# Altium integrated library Linear Technology PMIC-Switching Reg LTC1174-LTC3901.IntLib: 2647 symbols (part 22 of 310)
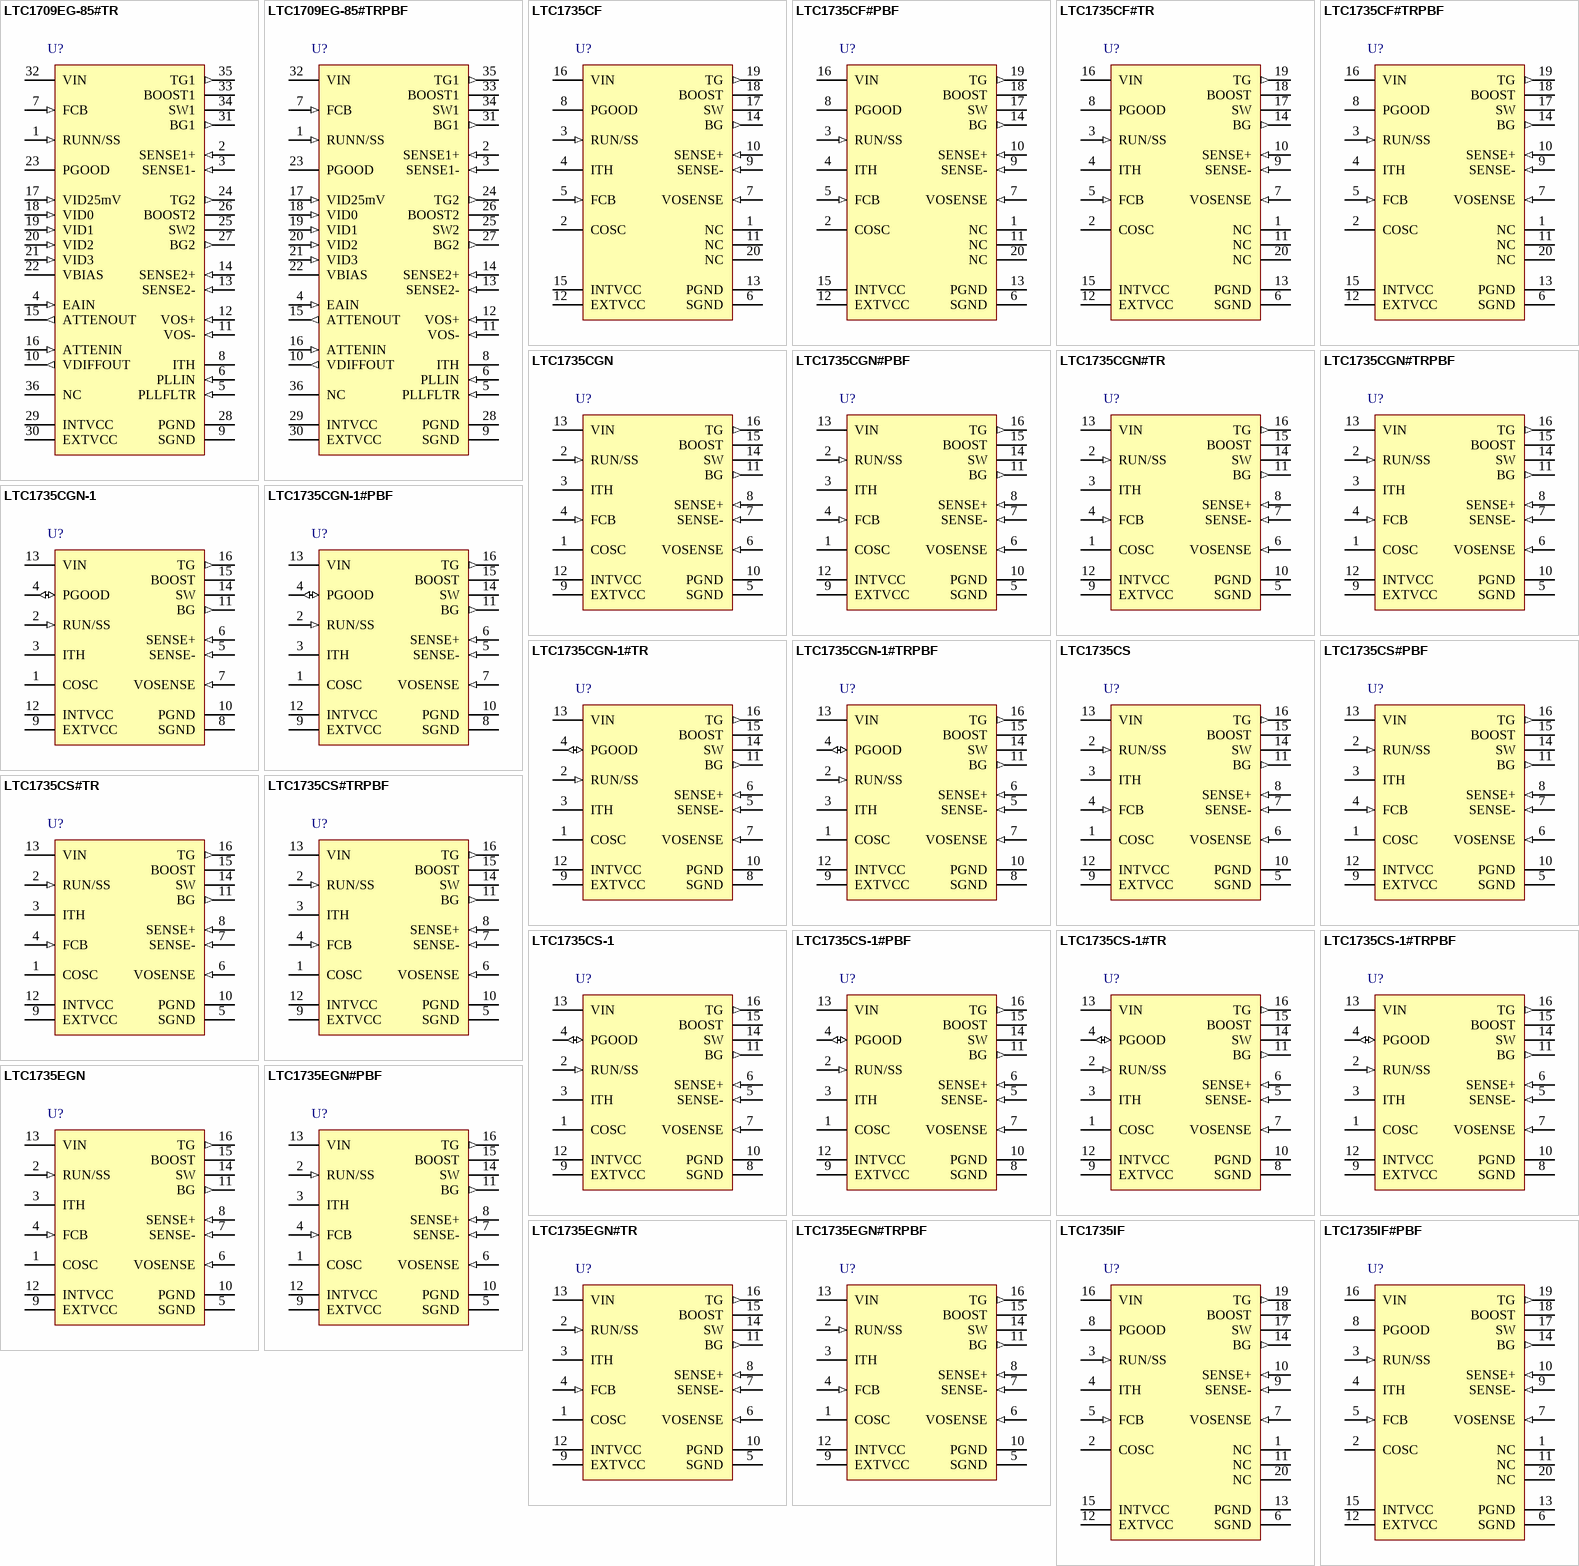
[diagram p128: symbols LTC1709EG-85#TR to LTC1735IF#PBF]

## LTC1735CGN#TR
designator U?
High Efficiency Synchronous Step-Down Switching Regulator, 16-pin SOP (GN-16), 0 to 85 degC, Tape and Reel; Manufacturer: Linear Technology; PartNumber: LTC1735CGN#TR; Number of Outputs: 1; PackageReference: GN-16; PackageDescription: 16-Pin Plastic SSOP, Body 4.9 x 3.9 mm, Pitch 0.635 mm; Supplier 1: Digi-Key; Supplier Part Number 1: LTC1735CGN#TR-ND; RoHS: FALSE
footprint LT-GN-16_N (SOP, 16-Leads, Body 5x4mm, Pitch 0.635mm, IPC Medium Density)
footprint LT-GN-16_L (SOP, 16-Leads, Body 5x4mm, Pitch 0.635mm, IPC High Density)
footprint LT-GN-16_M (SOP, 16-Leads, Body 5x4mm, Pitch 0.635mm, IPC Low Density)
pins: 1 COSC "External capacitor COSC from this pin to ground sets the operating frequency.", 2 RUN/SS (in) "Combination of Soft-Start and Run Control Inputs. A capacitor to ground at this pin sets the ramp time to full output current. The time is approximately 1.25s/uF. Forcing this pin below 1.5V causes the device to shut down. (See Datasheet)", 3 ITH "Error Amplifier Compensation Point. The current comparator threshold increases with this control voltage. Nominal voltage range for this pin is 0V to 2.4V.", 4 FCB (in) "Forced Continuous/Synchronization Input. Tie this pin to ground for continuous synchronous operation, to a resistive divider from the secondary output when using a secondary winding or to INTVCC to enable Burst Mode (See Datasheet)", 5 SGND (power) "Small-Signal Ground. All small-signal components such as COSC, CSS, the feedback divider plus the loop compensation resistor and capacitor(s) should single-point tie to this pin. This pin should, in turn, connect to PGND.", 6 VOSENSE (in) "Receives the feedback voltage from an external resistive divider across the outpu", 7 SENSE- (in) "The (-) Input to the Current Comparator.", 8 SENSE+ (in) "The (+) Input to the Current Comparator. Built-in offsets between SENSE- and SENSE+ pins in conjunction with RSENSE set the current trip threshold.", 9 EXTVCC (power) "Input to the Internal Switch Connected to INTVCC. This switch closes and supplies VCC power whenever EXTVCC is higher than 4.7V. See EXTVCC connection in the Applications Information section. Do not exceed 7V on this pin and (See Datasheet)", 10 PGND (power) "Driver Power Ground. Connects to the source of bottom N-channel MOSFET, the anode of the Schottky diode, and the (-) terminal of CIN.", 11 BG (out) "High Current Gate Drive for Bottom N-Channel MOSFET. Voltage swing at this pin is from ground to INTVCC.", 12 INTVCC (power) "Output of the Internal 5.2V Regulator and EXTVCC Switch. The driver and control circuits are powered from this voltage. Decouple to power ground with a 1uF ceramic capacitor placed directly adjacent to the IC together with a (See Datasheet)", 13 VIN (power) "Main Supply Pin. Must be closely decoupled to power ground.", 14 SW "Switch Node Connection to Inductor and Bootstrap Capacitor. Voltage swing at this pin is from a Schottky diode (external) voltage drop below ground to VIN.", 15 BOOST "Supply to Topside Floating Driver. The bootstrap capacitor is returned to this pin. Voltage swing at this pin is from a diode drop below INTVCC to (VIN + INTVCC).", 16 TG (out) "High Current Gate Drive for Top N-Channel MOSFET. This is the output of a floating driver with a voltage swing equal to INTVCC superimposed on the switch node voltage"

## LTC1735CGN#TRPBF
designator U?
High Efficiency Synchronous Step-Down Switching Regulator, 16-pin SOP (GN-16), 0 to 85 degC, Pb-Free, Tape and Reel; Manufacturer: Linear Technology; PartNumber: LTC1735CGN#TRPBF; Number of Outputs: 1; PackageReference: GN-16; PackageDescription: 16-Pin Plastic SSOP, Body 4.9 x 3.9 mm, Pitch 0.635 mm; Supplier 1: Digi-Key; Supplier Part Number 1: LTC1735CGN#TRPBF-ND; RoHS: TRUE
footprint LT-GN-16_N (SOP, 16-Leads, Body 5x4mm, Pitch 0.635mm, IPC Medium Density)
footprint LT-GN-16_L (SOP, 16-Leads, Body 5x4mm, Pitch 0.635mm, IPC High Density)
footprint LT-GN-16_M (SOP, 16-Leads, Body 5x4mm, Pitch 0.635mm, IPC Low Density)
pins: 1 COSC "External capacitor COSC from this pin to ground sets the operating frequency.", 2 RUN/SS (in) "Combination of Soft-Start and Run Control Inputs. A capacitor to ground at this pin sets the ramp time to full output current. The time is approximately 1.25s/uF. Forcing this pin below 1.5V causes the device to shut down. (See Datasheet)", 3 ITH "Error Amplifier Compensation Point. The current comparator threshold increases with this control voltage. Nominal voltage range for this pin is 0V to 2.4V.", 4 FCB (in) "Forced Continuous/Synchronization Input. Tie this pin to ground for continuous synchronous operation, to a resistive divider from the secondary output when using a secondary winding or to INTVCC to enable Burst Mode (See Datasheet)", 5 SGND (power) "Small-Signal Ground. All small-signal components such as COSC, CSS, the feedback divider plus the loop compensation resistor and capacitor(s) should single-point tie to this pin. This pin should, in turn, connect to PGND.", 6 VOSENSE (in) "Receives the feedback voltage from an external resistive divider across the outpu", 7 SENSE- (in) "The (-) Input to the Current Comparator.", 8 SENSE+ (in) "The (+) Input to the Current Comparator. Built-in offsets between SENSE- and SENSE+ pins in conjunction with RSENSE set the current trip threshold.", 9 EXTVCC (power) "Input to the Internal Switch Connected to INTVCC. This switch closes and supplies VCC power whenever EXTVCC is higher than 4.7V. See EXTVCC connection in the Applications Information section. Do not exceed 7V on this pin and (See Datasheet)", 10 PGND (power) "Driver Power Ground. Connects to the source of bottom N-channel MOSFET, the anode of the Schottky diode, and the (-) terminal of CIN.", 11 BG (out) "High Current Gate Drive for Bottom N-Channel MOSFET. Voltage swing at this pin is from ground to INTVCC.", 12 INTVCC (power) "Output of the Internal 5.2V Regulator and EXTVCC Switch. The driver and control circuits are powered from this voltage. Decouple to power ground with a 1uF ceramic capacitor placed directly adjacent to the IC together with a (See Datasheet)", 13 VIN (power) "Main Supply Pin. Must be closely decoupled to power ground.", 14 SW "Switch Node Connection to Inductor and Bootstrap Capacitor. Voltage swing at this pin is from a Schottky diode (external) voltage drop below ground to VIN.", 15 BOOST "Supply to Topside Floating Driver. The bootstrap capacitor is returned to this pin. Voltage swing at this pin is from a diode drop below INTVCC to (VIN + INTVCC).", 16 TG (out) "High Current Gate Drive for Top N-Channel MOSFET. This is the output of a floating driver with a voltage swing equal to INTVCC superimposed on the switch node voltage"

## LTC1735CGN-1
designator U?
High Efficiency Synchronous Step-Down Switching Regulator, 16-pin SOP (GN-16), 0 to 85 degC; Manufacturer: Linear Technology; PartNumber: LTC1735CGN-1; Number of Outputs: 1; PackageReference: GN-16; PackageDescription: 16-Pin Plastic SSOP, Body 4.9 x 3.9 mm, Pitch 0.635 mm; Supplier 1: Digi-Key; Supplier Part Number 1: LTC1735CGN-1-ND; RoHS: FALSE
footprint LT-GN-16_N (SOP, 16-Leads, Body 5x4mm, Pitch 0.635mm, IPC Medium Density)
footprint LT-GN-16_L (SOP, 16-Leads, Body 5x4mm, Pitch 0.635mm, IPC High Density)
footprint LT-GN-16_M (SOP, 16-Leads, Body 5x4mm, Pitch 0.635mm, IPC Low Density)
pins: 1 COSC "External capacitor COSC from this pin to ground sets the operating frequency.", 2 RUN/SS (in) "Combination of Soft-Start and Run Control Inputs. A capacitor to ground at this pin sets the ramp time to full current output. The time is approximately 1.25s/uF. Forcing this pin below 1.5V causes the device to be shut down.(See Datasheet)", 3 ITH "Error Amplifier Compensation Point. The current comparator threshold increases with this control voltage. Nominal voltage range for this pin is 0V to 2.4V.", 4 PGOOD (io) "Open-Drain Logic Output and Forced Continuous/Synchronization Input. The PGOOD pin is pulled to ground when the voltage on the VOSENSE pin is not within +/-7.5% of its nominal set point. If power good indication is not (See Datasheet)", 5 SENSE- (in) "The (-) Input to the Current Comparator.", 6 SENSE+ (in) "The (+) Input to the Current Comparator. Built-in offsets between SENSE + and SENSE- pins in conjunction with RSENSE set the inductor current trip threshold.", 7 VOSENSE (in) "Receives the feedback voltage from an external resistive divider across the output.", 8 SGND (power) "Small-Signal Ground. All small-signal components such as COSC, CSS, the feedback divider plus the loop compensation resistors and capacitor(s) should single-point tie to this pin. This pin should, in turn, connect to PGND.", 9 EXTVCC (power) "Input to the Internal Switch Connected to INTVCC. This switch closes and supplies VCC power whenever EXTVCC is higher than 4.7V. See EXTVCC connection in Applications Information section. Do not exceed 7V on this pin and (See Datasheet)", 10 PGND (power) "Driver Power Ground. This pin connects to the source of the bottom N-channel MOSFET, the anode of the Schottky diode and the (-) terminal of CIN.", 11 BG (out) "High Current Gate Drive for the Bottom N-Channel MOSFET. Voltage swing at this pin is from ground to INTVCC .", 12 INTVCC (power) "Output of the Internal 5.2V Low Dropout Regulator and EXTVCC Switch. The driver and control circuits are powered from this voltage. Decouple to power ground with a 1uF ceramic capacitor placed directly adjacent to the IC (See Datasheet)", 13 VIN (power) "Main Supply Pin. This pin must be closely decoupled to power ground.", 14 SW "Switch Node Connection to Inductor and Bootstrap Capacitor. Voltage swing at this pin is from a Schottky diode (external) voltage drop below ground to VIN.", 15 BOOST "Supply to Topside Floating Driver. The bootstrap capacitor is returned to this pin. Voltage swing at this pin is from a diode drop below INTVCC to VIN + INTVCC.", 16 TG (out) "High Current Gate Drive for Top N-Channel MOSFET. This is the output of a floating driver with a voltage swing equal to INTVCC superimposed on the switch node voltage SW."

## LTC1735CGN-1#PBF
designator U?
High Efficiency Synchronous Step-Down Switching Regulator, 16-pin SOP (GN-16), 0 to 85 degC, Pb-Free; Manufacturer: Linear Technology; PartNumber: LTC1735CGN-1#PBF; Number of Outputs: 1; PackageReference: GN-16; PackageDescription: 16-Pin Plastic SSOP, Body 4.9 x 3.9 mm, Pitch 0.635 mm; Supplier 1: Digi-Key; Supplier Part Number 1: LTC1735CGN-1#PBF-ND; RoHS: TRUE
footprint LT-GN-16_N (SOP, 16-Leads, Body 5x4mm, Pitch 0.635mm, IPC Medium Density)
footprint LT-GN-16_L (SOP, 16-Leads, Body 5x4mm, Pitch 0.635mm, IPC High Density)
footprint LT-GN-16_M (SOP, 16-Leads, Body 5x4mm, Pitch 0.635mm, IPC Low Density)
pins: 1 COSC "External capacitor COSC from this pin to ground sets the operating frequency.", 2 RUN/SS (in) "Combination of Soft-Start and Run Control Inputs. A capacitor to ground at this pin sets the ramp time to full current output. The time is approximately 1.25s/uF. Forcing this pin below 1.5V causes the device to be shut down.(See Datasheet)", 3 ITH "Error Amplifier Compensation Point. The current comparator threshold increases with this control voltage. Nominal voltage range for this pin is 0V to 2.4V.", 4 PGOOD (io) "Open-Drain Logic Output and Forced Continuous/Synchronization Input. The PGOOD pin is pulled to ground when the voltage on the VOSENSE pin is not within +/-7.5% of its nominal set point. If power good indication is not (See Datasheet)", 5 SENSE- (in) "The (-) Input to the Current Comparator.", 6 SENSE+ (in) "The (+) Input to the Current Comparator. Built-in offsets between SENSE + and SENSE- pins in conjunction with RSENSE set the inductor current trip threshold.", 7 VOSENSE (in) "Receives the feedback voltage from an external resistive divider across the output.", 8 SGND (power) "Small-Signal Ground. All small-signal components such as COSC, CSS, the feedback divider plus the loop compensation resistors and capacitor(s) should single-point tie to this pin. This pin should, in turn, connect to PGND.", 9 EXTVCC (power) "Input to the Internal Switch Connected to INTVCC. This switch closes and supplies VCC power whenever EXTVCC is higher than 4.7V. See EXTVCC connection in Applications Information section. Do not exceed 7V on this pin and (See Datasheet)", 10 PGND (power) "Driver Power Ground. This pin connects to the source of the bottom N-channel MOSFET, the anode of the Schottky diode and the (-) terminal of CIN.", 11 BG (out) "High Current Gate Drive for the Bottom N-Channel MOSFET. Voltage swing at this pin is from ground to INTVCC .", 12 INTVCC (power) "Output of the Internal 5.2V Low Dropout Regulator and EXTVCC Switch. The driver and control circuits are powered from this voltage. Decouple to power ground with a 1uF ceramic capacitor placed directly adjacent to the IC (See Datasheet)", 13 VIN (power) "Main Supply Pin. This pin must be closely decoupled to power ground.", 14 SW "Switch Node Connection to Inductor and Bootstrap Capacitor. Voltage swing at this pin is from a Schottky diode (external) voltage drop below ground to VIN.", 15 BOOST "Supply to Topside Floating Driver. The bootstrap capacitor is returned to this pin. Voltage swing at this pin is from a diode drop below INTVCC to VIN + INTVCC.", 16 TG (out) "High Current Gate Drive for Top N-Channel MOSFET. This is the output of a floating driver with a voltage swing equal to INTVCC superimposed on the switch node voltage SW."

## LTC1735CGN-1#TR
designator U?
High Efficiency Synchronous Step-Down Switching Regulator, 16-pin SOP (GN-16), 0 to 85 degC, Tape and Reel; Manufacturer: Linear Technology; PartNumber: LTC1735CGN-1#TR; Number of Outputs: 1; PackageReference: GN-16; PackageDescription: 16-Pin Plastic SSOP, Body 4.9 x 3.9 mm, Pitch 0.635 mm; Supplier 1: Digi-Key; Supplier Part Number 1: LTC1735CGN-1#TR-ND; RoHS: FALSE
footprint LT-GN-16_N (SOP, 16-Leads, Body 5x4mm, Pitch 0.635mm, IPC Medium Density)
footprint LT-GN-16_L (SOP, 16-Leads, Body 5x4mm, Pitch 0.635mm, IPC High Density)
footprint LT-GN-16_M (SOP, 16-Leads, Body 5x4mm, Pitch 0.635mm, IPC Low Density)
pins: 1 COSC "External capacitor COSC from this pin to ground sets the operating frequency.", 2 RUN/SS (in) "Combination of Soft-Start and Run Control Inputs. A capacitor to ground at this pin sets the ramp time to full current output. The time is approximately 1.25s/uF. Forcing this pin below 1.5V causes the device to be shut down.(See Datasheet)", 3 ITH "Error Amplifier Compensation Point. The current comparator threshold increases with this control voltage. Nominal voltage range for this pin is 0V to 2.4V.", 4 PGOOD (io) "Open-Drain Logic Output and Forced Continuous/Synchronization Input. The PGOOD pin is pulled to ground when the voltage on the VOSENSE pin is not within +/-7.5% of its nominal set point. If power good indication is not (See Datasheet)", 5 SENSE- (in) "The (-) Input to the Current Comparator.", 6 SENSE+ (in) "The (+) Input to the Current Comparator. Built-in offsets between SENSE + and SENSE- pins in conjunction with RSENSE set the inductor current trip threshold.", 7 VOSENSE (in) "Receives the feedback voltage from an external resistive divider across the output.", 8 SGND (power) "Small-Signal Ground. All small-signal components such as COSC, CSS, the feedback divider plus the loop compensation resistors and capacitor(s) should single-point tie to this pin. This pin should, in turn, connect to PGND.", 9 EXTVCC (power) "Input to the Internal Switch Connected to INTVCC. This switch closes and supplies VCC power whenever EXTVCC is higher than 4.7V. See EXTVCC connection in Applications Information section. Do not exceed 7V on this pin and (See Datasheet)", 10 PGND (power) "Driver Power Ground. This pin connects to the source of the bottom N-channel MOSFET, the anode of the Schottky diode and the (-) terminal of CIN.", 11 BG (out) "High Current Gate Drive for the Bottom N-Channel MOSFET. Voltage swing at this pin is from ground to INTVCC .", 12 INTVCC (power) "Output of the Internal 5.2V Low Dropout Regulator and EXTVCC Switch. The driver and control circuits are powered from this voltage. Decouple to power ground with a 1uF ceramic capacitor placed directly adjacent to the IC (See Datasheet)", 13 VIN (power) "Main Supply Pin. This pin must be closely decoupled to power ground.", 14 SW "Switch Node Connection to Inductor and Bootstrap Capacitor. Voltage swing at this pin is from a Schottky diode (external) voltage drop below ground to VIN.", 15 BOOST "Supply to Topside Floating Driver. The bootstrap capacitor is returned to this pin. Voltage swing at this pin is from a diode drop below INTVCC to VIN + INTVCC.", 16 TG (out) "High Current Gate Drive for Top N-Channel MOSFET. This is the output of a floating driver with a voltage swing equal to INTVCC superimposed on the switch node voltage SW."

## LTC1735CGN-1#TRPBF
designator U?
High Efficiency Synchronous Step-Down Switching Regulator, 16-pin SOP (GN-16), 0 to 85 degC, Pb-Free, Tape and Reel; Manufacturer: Linear Technology; PartNumber: LTC1735CGN-1#TRPBF; Number of Outputs: 1; PackageReference: GN-16; PackageDescription: 16-Pin Plastic SSOP, Body 4.9 x 3.9 mm, Pitch 0.635 mm; Supplier 1: Digi-Key; Supplier Part Number 1: LTC1735CGN-1#TRPBF-ND; RoHS: TRUE
footprint LT-GN-16_N (SOP, 16-Leads, Body 5x4mm, Pitch 0.635mm, IPC Medium Density)
footprint LT-GN-16_L (SOP, 16-Leads, Body 5x4mm, Pitch 0.635mm, IPC High Density)
footprint LT-GN-16_M (SOP, 16-Leads, Body 5x4mm, Pitch 0.635mm, IPC Low Density)
pins: 1 COSC "External capacitor COSC from this pin to ground sets the operating frequency.", 2 RUN/SS (in) "Combination of Soft-Start and Run Control Inputs. A capacitor to ground at this pin sets the ramp time to full current output. The time is approximately 1.25s/uF. Forcing this pin below 1.5V causes the device to be shut down.(See Datasheet)", 3 ITH "Error Amplifier Compensation Point. The current comparator threshold increases with this control voltage. Nominal voltage range for this pin is 0V to 2.4V.", 4 PGOOD (io) "Open-Drain Logic Output and Forced Continuous/Synchronization Input. The PGOOD pin is pulled to ground when the voltage on the VOSENSE pin is not within +/-7.5% of its nominal set point. If power good indication is not (See Datasheet)", 5 SENSE- (in) "The (-) Input to the Current Comparator.", 6 SENSE+ (in) "The (+) Input to the Current Comparator. Built-in offsets between SENSE + and SENSE- pins in conjunction with RSENSE set the inductor current trip threshold.", 7 VOSENSE (in) "Receives the feedback voltage from an external resistive divider across the output.", 8 SGND (power) "Small-Signal Ground. All small-signal components such as COSC, CSS, the feedback divider plus the loop compensation resistors and capacitor(s) should single-point tie to this pin. This pin should, in turn, connect to PGND.", 9 EXTVCC (power) "Input to the Internal Switch Connected to INTVCC. This switch closes and supplies VCC power whenever EXTVCC is higher than 4.7V. See EXTVCC connection in Applications Information section. Do not exceed 7V on this pin and (See Datasheet)", 10 PGND (power) "Driver Power Ground. This pin connects to the source of the bottom N-channel MOSFET, the anode of the Schottky diode and the (-) terminal of CIN.", 11 BG (out) "High Current Gate Drive for the Bottom N-Channel MOSFET. Voltage swing at this pin is from ground to INTVCC .", 12 INTVCC (power) "Output of the Internal 5.2V Low Dropout Regulator and EXTVCC Switch. The driver and control circuits are powered from this voltage. Decouple to power ground with a 1uF ceramic capacitor placed directly adjacent to the IC (See Datasheet)", 13 VIN (power) "Main Supply Pin. This pin must be closely decoupled to power ground.", 14 SW "Switch Node Connection to Inductor and Bootstrap Capacitor. Voltage swing at this pin is from a Schottky diode (external) voltage drop below ground to VIN.", 15 BOOST "Supply to Topside Floating Driver. The bootstrap capacitor is returned to this pin. Voltage swing at this pin is from a diode drop below INTVCC to VIN + INTVCC.", 16 TG (out) "High Current Gate Drive for Top N-Channel MOSFET. This is the output of a floating driver with a voltage swing equal to INTVCC superimposed on the switch node voltage SW."

## LTC1735CS
designator U?
High Efficiency Synchronous Step-Down Switching Regulator, 16-pin SOP (S-16), 0 to 85 degC; Manufacturer: Linear Technology; PartNumber: LTC1735CS; Number of Outputs: 1; PackageReference: S-16; PackageDescription: 16-Pin Plastic Small Outline, Body 9.9 x 3.9 mm, Pitch 1.27 mm; Supplier 1: Digi-Key; Supplier Part Number 1: LTC1735CS-ND; RoHS: FALSE
footprint LT-S-16_N (SOP, 16-Leads, Body 10x4mm, Pitch 1.27mm, IPC Medium Density)
footprint LT-S-16_L (SOP, 16-Leads, Body 10x4mm, Pitch 1.27mm, IPC High Density)
footprint LT-S-16_M (SOP, 16-Leads, Body 10x4mm, Pitch 1.27mm, IPC Low Density)
pins: 1 COSC "External capacitor COSC from this pin to ground sets the operating frequency.", 2 RUN/SS (in) "Combination of Soft-Start and Run Control Inputs. A capacitor to ground at this pin sets the ramp time to full output current. The time is approximately 1.25s/uF. Forcing this pin below 1.5V causes the device to shut down. (See Datasheet)", 3 ITH "Error Amplifier Compensation Point. The current comparator threshold increases with this control voltage. Nominal voltage range for this pin is 0V to 2.4V.", 4 FCB (in) "Forced Continuous/Synchronization Input. Tie this pin to ground for continuous synchronous operation, to a resistive divider from the secondary output when using a secondary winding or to INTVCC to enable Burst Mode (See Datasheet)", 5 SGND (power) "Small-Signal Ground. All small-signal components such as COSC, CSS, the feedback divider plus the loop compensation resistor and capacitor(s) should single-point tie to this pin. This pin should, in turn, connect to PGND.", 6 VOSENSE (in) "Receives the feedback voltage from an external resistive divider across the outpu", 7 SENSE- (in) "The (-) Input to the Current Comparator.", 8 SENSE+ (in) "The (+) Input to the Current Comparator. Built-in offsets between SENSE- and SENSE+ pins in conjunction with RSENSE set the current trip threshold.", 9 EXTVCC (power) "Input to the Internal Switch Connected to INTVCC. This switch closes and supplies VCC power whenever EXTVCC is higher than 4.7V. See EXTVCC connection in the Applications Information section. Do not exceed 7V on this pin and (See Datasheet)", 10 PGND (power) "Driver Power Ground. Connects to the source of bottom N-channel MOSFET, the anode of the Schottky diode, and the (-) terminal of CIN.", 11 BG (out) "High Current Gate Drive for Bottom N-Channel MOSFET. Voltage swing at this pin is from ground to INTVCC.", 12 INTVCC (power) "Output of the Internal 5.2V Regulator and EXTVCC Switch. The driver and control circuits are powered from this voltage. Decouple to power ground with a 1uF ceramic capacitor placed directly adjacent to the IC together with a (See Datasheet)", 13 VIN (power) "Main Supply Pin. Must be closely decoupled to power ground.", 14 SW "Switch Node Connection to Inductor and Bootstrap Capacitor. Voltage swing at this pin is from a Schottky diode (external) voltage drop below ground to VIN.", 15 BOOST "Supply to Topside Floating Driver. The bootstrap capacitor is returned to this pin. Voltage swing at this pin is from a diode drop below INTVCC to (VIN + INTVCC).", 16 TG (out) "High Current Gate Drive for Top N-Channel MOSFET. This is the output of a floating driver with a voltage swing equal to INTVCC superimposed on the switch node voltage"

## LTC1735CS#PBF
designator U?
High Efficiency Synchronous Step-Down Switching Regulator, 16-pin SOP (S-16), 0 to 85 degC, Pb-Free; Manufacturer: Linear Technology; PartNumber: LTC1735CS#PBF; Number of Outputs: 1; PackageReference: S-16; PackageDescription: 16-Pin Plastic Small Outline, Body 9.9 x 3.9 mm, Pitch 1.27 mm; Supplier 1: Digi-Key; Supplier Part Number 1: LTC1735CS#PBF-ND; RoHS: TRUE
footprint LT-S-16_N (SOP, 16-Leads, Body 10x4mm, Pitch 1.27mm, IPC Medium Density)
footprint LT-S-16_L (SOP, 16-Leads, Body 10x4mm, Pitch 1.27mm, IPC High Density)
footprint LT-S-16_M (SOP, 16-Leads, Body 10x4mm, Pitch 1.27mm, IPC Low Density)
pins: 1 COSC "External capacitor COSC from this pin to ground sets the operating frequency.", 2 RUN/SS (in) "Combination of Soft-Start and Run Control Inputs. A capacitor to ground at this pin sets the ramp time to full output current. The time is approximately 1.25s/uF. Forcing this pin below 1.5V causes the device to shut down. (See Datasheet)", 3 ITH "Error Amplifier Compensation Point. The current comparator threshold increases with this control voltage. Nominal voltage range for this pin is 0V to 2.4V.", 4 FCB (in) "Forced Continuous/Synchronization Input. Tie this pin to ground for continuous synchronous operation, to a resistive divider from the secondary output when using a secondary winding or to INTVCC to enable Burst Mode (See Datasheet)", 5 SGND (power) "Small-Signal Ground. All small-signal components such as COSC, CSS, the feedback divider plus the loop compensation resistor and capacitor(s) should single-point tie to this pin. This pin should, in turn, connect to PGND.", 6 VOSENSE (in) "Receives the feedback voltage from an external resistive divider across the outpu", 7 SENSE- (in) "The (-) Input to the Current Comparator.", 8 SENSE+ (in) "The (+) Input to the Current Comparator. Built-in offsets between SENSE- and SENSE+ pins in conjunction with RSENSE set the current trip threshold.", 9 EXTVCC (power) "Input to the Internal Switch Connected to INTVCC. This switch closes and supplies VCC power whenever EXTVCC is higher than 4.7V. See EXTVCC connection in the Applications Information section. Do not exceed 7V on this pin and (See Datasheet)", 10 PGND (power) "Driver Power Ground. Connects to the source of bottom N-channel MOSFET, the anode of the Schottky diode, and the (-) terminal of CIN.", 11 BG (out) "High Current Gate Drive for Bottom N-Channel MOSFET. Voltage swing at this pin is from ground to INTVCC.", 12 INTVCC (power) "Output of the Internal 5.2V Regulator and EXTVCC Switch. The driver and control circuits are powered from this voltage. Decouple to power ground with a 1uF ceramic capacitor placed directly adjacent to the IC together with a (See Datasheet)", 13 VIN (power) "Main Supply Pin. Must be closely decoupled to power ground.", 14 SW "Switch Node Connection to Inductor and Bootstrap Capacitor. Voltage swing at this pin is from a Schottky diode (external) voltage drop below ground to VIN.", 15 BOOST "Supply to Topside Floating Driver. The bootstrap capacitor is returned to this pin. Voltage swing at this pin is from a diode drop below INTVCC to (VIN + INTVCC).", 16 TG (out) "High Current Gate Drive for Top N-Channel MOSFET. This is the output of a floating driver with a voltage swing equal to INTVCC superimposed on the switch node voltage"

## LTC1735CS#TR
designator U?
High Efficiency Synchronous Step-Down Switching Regulator, 16-pin SOP (S-16), 0 to 85 degC, Tape and Reel; Manufacturer: Linear Technology; PartNumber: LTC1735CS#TR; Number of Outputs: 1; PackageReference: S-16; PackageDescription: 16-Pin Plastic Small Outline, Body 9.9 x 3.9 mm, Pitch 1.27 mm; Supplier 1: Digi-Key; Supplier Part Number 1: LTC1735CS#TR-ND; RoHS: FALSE
footprint LT-S-16_N (SOP, 16-Leads, Body 10x4mm, Pitch 1.27mm, IPC Medium Density)
footprint LT-S-16_L (SOP, 16-Leads, Body 10x4mm, Pitch 1.27mm, IPC High Density)
footprint LT-S-16_M (SOP, 16-Leads, Body 10x4mm, Pitch 1.27mm, IPC Low Density)
pins: 1 COSC "External capacitor COSC from this pin to ground sets the operating frequency.", 2 RUN/SS (in) "Combination of Soft-Start and Run Control Inputs. A capacitor to ground at this pin sets the ramp time to full output current. The time is approximately 1.25s/uF. Forcing this pin below 1.5V causes the device to shut down. (See Datasheet)", 3 ITH "Error Amplifier Compensation Point. The current comparator threshold increases with this control voltage. Nominal voltage range for this pin is 0V to 2.4V.", 4 FCB (in) "Forced Continuous/Synchronization Input. Tie this pin to ground for continuous synchronous operation, to a resistive divider from the secondary output when using a secondary winding or to INTVCC to enable Burst Mode (See Datasheet)", 5 SGND (power) "Small-Signal Ground. All small-signal components such as COSC, CSS, the feedback divider plus the loop compensation resistor and capacitor(s) should single-point tie to this pin. This pin should, in turn, connect to PGND.", 6 VOSENSE (in) "Receives the feedback voltage from an external resistive divider across the outpu", 7 SENSE- (in) "The (-) Input to the Current Comparator.", 8 SENSE+ (in) "The (+) Input to the Current Comparator. Built-in offsets between SENSE- and SENSE+ pins in conjunction with RSENSE set the current trip threshold.", 9 EXTVCC (power) "Input to the Internal Switch Connected to INTVCC. This switch closes and supplies VCC power whenever EXTVCC is higher than 4.7V. See EXTVCC connection in the Applications Information section. Do not exceed 7V on this pin and (See Datasheet)", 10 PGND (power) "Driver Power Ground. Connects to the source of bottom N-channel MOSFET, the anode of the Schottky diode, and the (-) terminal of CIN.", 11 BG (out) "High Current Gate Drive for Bottom N-Channel MOSFET. Voltage swing at this pin is from ground to INTVCC.", 12 INTVCC (power) "Output of the Internal 5.2V Regulator and EXTVCC Switch. The driver and control circuits are powered from this voltage. Decouple to power ground with a 1uF ceramic capacitor placed directly adjacent to the IC together with a (See Datasheet)", 13 VIN (power) "Main Supply Pin. Must be closely decoupled to power ground.", 14 SW "Switch Node Connection to Inductor and Bootstrap Capacitor. Voltage swing at this pin is from a Schottky diode (external) voltage drop below ground to VIN.", 15 BOOST "Supply to Topside Floating Driver. The bootstrap capacitor is returned to this pin. Voltage swing at this pin is from a diode drop below INTVCC to (VIN + INTVCC).", 16 TG (out) "High Current Gate Drive for Top N-Channel MOSFET. This is the output of a floating driver with a voltage swing equal to INTVCC superimposed on the switch node voltage"

## LTC1735CS#TRPBF
designator U?
High Efficiency Synchronous Step-Down Switching Regulator, 16-pin SOP (S-16), 0 to 85 degC, Pb-Free, Tape and Reel; Manufacturer: Linear Technology; PartNumber: LTC1735CS#TRPBF; Number of Outputs: 1; PackageReference: S-16; PackageDescription: 16-Pin Plastic Small Outline, Body 9.9 x 3.9 mm, Pitch 1.27 mm; Supplier 1: Digi-Key; Supplier Part Number 1: LTC1735CS#TRPBF-ND; RoHS: TRUE
footprint LT-S-16_N (SOP, 16-Leads, Body 10x4mm, Pitch 1.27mm, IPC Medium Density)
footprint LT-S-16_L (SOP, 16-Leads, Body 10x4mm, Pitch 1.27mm, IPC High Density)
footprint LT-S-16_M (SOP, 16-Leads, Body 10x4mm, Pitch 1.27mm, IPC Low Density)
pins: 1 COSC "External capacitor COSC from this pin to ground sets the operating frequency.", 2 RUN/SS (in) "Combination of Soft-Start and Run Control Inputs. A capacitor to ground at this pin sets the ramp time to full output current. The time is approximately 1.25s/uF. Forcing this pin below 1.5V causes the device to shut down. (See Datasheet)", 3 ITH "Error Amplifier Compensation Point. The current comparator threshold increases with this control voltage. Nominal voltage range for this pin is 0V to 2.4V.", 4 FCB (in) "Forced Continuous/Synchronization Input. Tie this pin to ground for continuous synchronous operation, to a resistive divider from the secondary output when using a secondary winding or to INTVCC to enable Burst Mode (See Datasheet)", 5 SGND (power) "Small-Signal Ground. All small-signal components such as COSC, CSS, the feedback divider plus the loop compensation resistor and capacitor(s) should single-point tie to this pin. This pin should, in turn, connect to PGND.", 6 VOSENSE (in) "Receives the feedback voltage from an external resistive divider across the outpu", 7 SENSE- (in) "The (-) Input to the Current Comparator.", 8 SENSE+ (in) "The (+) Input to the Current Comparator. Built-in offsets between SENSE- and SENSE+ pins in conjunction with RSENSE set the current trip threshold.", 9 EXTVCC (power) "Input to the Internal Switch Connected to INTVCC. This switch closes and supplies VCC power whenever EXTVCC is higher than 4.7V. See EXTVCC connection in the Applications Information section. Do not exceed 7V on this pin and (See Datasheet)", 10 PGND (power) "Driver Power Ground. Connects to the source of bottom N-channel MOSFET, the anode of the Schottky diode, and the (-) terminal of CIN.", 11 BG (out) "High Current Gate Drive for Bottom N-Channel MOSFET. Voltage swing at this pin is from ground to INTVCC.", 12 INTVCC (power) "Output of the Internal 5.2V Regulator and EXTVCC Switch. The driver and control circuits are powered from this voltage. Decouple to power ground with a 1uF ceramic capacitor placed directly adjacent to the IC together with a (See Datasheet)", 13 VIN (power) "Main Supply Pin. Must be closely decoupled to power ground.", 14 SW "Switch Node Connection to Inductor and Bootstrap Capacitor. Voltage swing at this pin is from a Schottky diode (external) voltage drop below ground to VIN.", 15 BOOST "Supply to Topside Floating Driver. The bootstrap capacitor is returned to this pin. Voltage swing at this pin is from a diode drop below INTVCC to (VIN + INTVCC).", 16 TG (out) "High Current Gate Drive for Top N-Channel MOSFET. This is the output of a floating driver with a voltage swing equal to INTVCC superimposed on the switch node voltage"

## LTC1735CS-1
designator U?
High Efficiency Synchronous Step-Down Switching Regulator, 16-pin SOP (S-16), 0 to 85 degC; Manufacturer: Linear Technology; PartNumber: LTC1735CS-1; Number of Outputs: 1; PackageReference: S-16; PackageDescription: 16-Pin Plastic Small Outline, Body 9.9 x 3.9 mm, Pitch 1.27 mm; Supplier 1: Digi-Key; Supplier Part Number 1: LTC1735CS-1-ND; RoHS: FALSE
footprint LT-S-16_N (SOP, 16-Leads, Body 10x4mm, Pitch 1.27mm, IPC Medium Density)
footprint LT-S-16_L (SOP, 16-Leads, Body 10x4mm, Pitch 1.27mm, IPC High Density)
footprint LT-S-16_M (SOP, 16-Leads, Body 10x4mm, Pitch 1.27mm, IPC Low Density)
pins: 1 COSC "External capacitor COSC from this pin to ground sets the operating frequency.", 2 RUN/SS (in) "Combination of Soft-Start and Run Control Inputs. A capacitor to ground at this pin sets the ramp time to full current output. The time is approximately 1.25s/uF. Forcing this pin below 1.5V causes the device to be shut down.(See Datasheet)", 3 ITH "Error Amplifier Compensation Point. The current comparator threshold increases with this control voltage. Nominal voltage range for this pin is 0V to 2.4V.", 4 PGOOD (io) "Open-Drain Logic Output and Forced Continuous/Synchronization Input. The PGOOD pin is pulled to ground when the voltage on the VOSENSE pin is not within +/-7.5% of its nominal set point. If power good indication is not (See Datasheet)", 5 SENSE- (in) "The (-) Input to the Current Comparator.", 6 SENSE+ (in) "The (+) Input to the Current Comparator. Built-in offsets between SENSE + and SENSE- pins in conjunction with RSENSE set the inductor current trip threshold.", 7 VOSENSE (in) "Receives the feedback voltage from an external resistive divider across the output.", 8 SGND (power) "Small-Signal Ground. All small-signal components such as COSC, CSS, the feedback divider plus the loop compensation resistors and capacitor(s) should single-point tie to this pin. This pin should, in turn, connect to PGND.", 9 EXTVCC (power) "Input to the Internal Switch Connected to INTVCC. This switch closes and supplies VCC power whenever EXTVCC is higher than 4.7V. See EXTVCC connection in Applications Information section. Do not exceed 7V on this pin and (See Datasheet)", 10 PGND (power) "Driver Power Ground. This pin connects to the source of the bottom N-channel MOSFET, the anode of the Schottky diode and the (-) terminal of CIN.", 11 BG (out) "High Current Gate Drive for the Bottom N-Channel MOSFET. Voltage swing at this pin is from ground to INTVCC .", 12 INTVCC (power) "Output of the Internal 5.2V Low Dropout Regulator and EXTVCC Switch. The driver and control circuits are powered from this voltage. Decouple to power ground with a 1uF ceramic capacitor placed directly adjacent to the IC (See Datasheet)", 13 VIN (power) "Main Supply Pin. This pin must be closely decoupled to power ground.", 14 SW "Switch Node Connection to Inductor and Bootstrap Capacitor. Voltage swing at this pin is from a Schottky diode (external) voltage drop below ground to VIN.", 15 BOOST "Supply to Topside Floating Driver. The bootstrap capacitor is returned to this pin. Voltage swing at this pin is from a diode drop below INTVCC to VIN + INTVCC.", 16 TG (out) "High Current Gate Drive for Top N-Channel MOSFET. This is the output of a floating driver with a voltage swing equal to INTVCC superimposed on the switch node voltage SW."

## LTC1735CS-1#PBF
designator U?
High Efficiency Synchronous Step-Down Switching Regulator, 16-pin SOP (S-16), 0 to 85 degC, Pb-Free; Manufacturer: Linear Technology; PartNumber: LTC1735CS-1#PBF; Number of Outputs: 1; PackageReference: S-16; PackageDescription: 16-Pin Plastic Small Outline, Body 9.9 x 3.9 mm, Pitch 1.27 mm; Supplier 1: Digi-Key; Supplier Part Number 1: LTC1735CS-1#PBF-ND; RoHS: TRUE
footprint LT-S-16_N (SOP, 16-Leads, Body 10x4mm, Pitch 1.27mm, IPC Medium Density)
footprint LT-S-16_L (SOP, 16-Leads, Body 10x4mm, Pitch 1.27mm, IPC High Density)
footprint LT-S-16_M (SOP, 16-Leads, Body 10x4mm, Pitch 1.27mm, IPC Low Density)
pins: 1 COSC "External capacitor COSC from this pin to ground sets the operating frequency.", 2 RUN/SS (in) "Combination of Soft-Start and Run Control Inputs. A capacitor to ground at this pin sets the ramp time to full current output. The time is approximately 1.25s/uF. Forcing this pin below 1.5V causes the device to be shut down.(See Datasheet)", 3 ITH "Error Amplifier Compensation Point. The current comparator threshold increases with this control voltage. Nominal voltage range for this pin is 0V to 2.4V.", 4 PGOOD (io) "Open-Drain Logic Output and Forced Continuous/Synchronization Input. The PGOOD pin is pulled to ground when the voltage on the VOSENSE pin is not within +/-7.5% of its nominal set point. If power good indication is not (See Datasheet)", 5 SENSE- (in) "The (-) Input to the Current Comparator.", 6 SENSE+ (in) "The (+) Input to the Current Comparator. Built-in offsets between SENSE + and SENSE- pins in conjunction with RSENSE set the inductor current trip threshold.", 7 VOSENSE (in) "Receives the feedback voltage from an external resistive divider across the output.", 8 SGND (power) "Small-Signal Ground. All small-signal components such as COSC, CSS, the feedback divider plus the loop compensation resistors and capacitor(s) should single-point tie to this pin. This pin should, in turn, connect to PGND.", 9 EXTVCC (power) "Input to the Internal Switch Connected to INTVCC. This switch closes and supplies VCC power whenever EXTVCC is higher than 4.7V. See EXTVCC connection in Applications Information section. Do not exceed 7V on this pin and (See Datasheet)", 10 PGND (power) "Driver Power Ground. This pin connects to the source of the bottom N-channel MOSFET, the anode of the Schottky diode and the (-) terminal of CIN.", 11 BG (out) "High Current Gate Drive for the Bottom N-Channel MOSFET. Voltage swing at this pin is from ground to INTVCC .", 12 INTVCC (power) "Output of the Internal 5.2V Low Dropout Regulator and EXTVCC Switch. The driver and control circuits are powered from this voltage. Decouple to power ground with a 1uF ceramic capacitor placed directly adjacent to the IC (See Datasheet)", 13 VIN (power) "Main Supply Pin. This pin must be closely decoupled to power ground.", 14 SW "Switch Node Connection to Inductor and Bootstrap Capacitor. Voltage swing at this pin is from a Schottky diode (external) voltage drop below ground to VIN.", 15 BOOST "Supply to Topside Floating Driver. The bootstrap capacitor is returned to this pin. Voltage swing at this pin is from a diode drop below INTVCC to VIN + INTVCC.", 16 TG (out) "High Current Gate Drive for Top N-Channel MOSFET. This is the output of a floating driver with a voltage swing equal to INTVCC superimposed on the switch node voltage SW."

## LTC1735CS-1#TR
designator U?
High Efficiency Synchronous Step-Down Switching Regulator, 16-pin SOP (S-16), 0 to 85 degC, Tape and Reel; Manufacturer: Linear Technology; PartNumber: LTC1735CS-1#TR; Number of Outputs: 1; PackageReference: S-16; PackageDescription: 16-Pin Plastic Small Outline, Body 9.9 x 3.9 mm, Pitch 1.27 mm; Supplier 1: Digi-Key; Supplier Part Number 1: LTC1735CS-1#TR-ND; RoHS: FALSE
footprint LT-S-16_N (SOP, 16-Leads, Body 10x4mm, Pitch 1.27mm, IPC Medium Density)
footprint LT-S-16_L (SOP, 16-Leads, Body 10x4mm, Pitch 1.27mm, IPC High Density)
footprint LT-S-16_M (SOP, 16-Leads, Body 10x4mm, Pitch 1.27mm, IPC Low Density)
pins: 1 COSC "External capacitor COSC from this pin to ground sets the operating frequency.", 2 RUN/SS (in) "Combination of Soft-Start and Run Control Inputs. A capacitor to ground at this pin sets the ramp time to full current output. The time is approximately 1.25s/uF. Forcing this pin below 1.5V causes the device to be shut down.(See Datasheet)", 3 ITH "Error Amplifier Compensation Point. The current comparator threshold increases with this control voltage. Nominal voltage range for this pin is 0V to 2.4V.", 4 PGOOD (io) "Open-Drain Logic Output and Forced Continuous/Synchronization Input. The PGOOD pin is pulled to ground when the voltage on the VOSENSE pin is not within +/-7.5% of its nominal set point. If power good indication is not (See Datasheet)", 5 SENSE- (in) "The (-) Input to the Current Comparator.", 6 SENSE+ (in) "The (+) Input to the Current Comparator. Built-in offsets between SENSE + and SENSE- pins in conjunction with RSENSE set the inductor current trip threshold.", 7 VOSENSE (in) "Receives the feedback voltage from an external resistive divider across the output.", 8 SGND (power) "Small-Signal Ground. All small-signal components such as COSC, CSS, the feedback divider plus the loop compensation resistors and capacitor(s) should single-point tie to this pin. This pin should, in turn, connect to PGND.", 9 EXTVCC (power) "Input to the Internal Switch Connected to INTVCC. This switch closes and supplies VCC power whenever EXTVCC is higher than 4.7V. See EXTVCC connection in Applications Information section. Do not exceed 7V on this pin and (See Datasheet)", 10 PGND (power) "Driver Power Ground. This pin connects to the source of the bottom N-channel MOSFET, the anode of the Schottky diode and the (-) terminal of CIN.", 11 BG (out) "High Current Gate Drive for the Bottom N-Channel MOSFET. Voltage swing at this pin is from ground to INTVCC .", 12 INTVCC (power) "Output of the Internal 5.2V Low Dropout Regulator and EXTVCC Switch. The driver and control circuits are powered from this voltage. Decouple to power ground with a 1uF ceramic capacitor placed directly adjacent to the IC (See Datasheet)", 13 VIN (power) "Main Supply Pin. This pin must be closely decoupled to power ground.", 14 SW "Switch Node Connection to Inductor and Bootstrap Capacitor. Voltage swing at this pin is from a Schottky diode (external) voltage drop below ground to VIN.", 15 BOOST "Supply to Topside Floating Driver. The bootstrap capacitor is returned to this pin. Voltage swing at this pin is from a diode drop below INTVCC to VIN + INTVCC.", 16 TG (out) "High Current Gate Drive for Top N-Channel MOSFET. This is the output of a floating driver with a voltage swing equal to INTVCC superimposed on the switch node voltage SW."

## LTC1735CS-1#TRPBF
designator U?
High Efficiency Synchronous Step-Down Switching Regulator, 16-pin SOP (S-16), 0 to 85 degC, Pb-Free, Tape and Reel; Manufacturer: Linear Technology; PartNumber: LTC1735CS-1#TRPBF; Number of Outputs: 1; PackageReference: S-16; PackageDescription: 16-Pin Plastic Small Outline, Body 9.9 x 3.9 mm, Pitch 1.27 mm; Supplier 1: Digi-Key; Supplier Part Number 1: LTC1735CS-1#TRPBF-ND; RoHS: TRUE
footprint LT-S-16_N (SOP, 16-Leads, Body 10x4mm, Pitch 1.27mm, IPC Medium Density)
footprint LT-S-16_L (SOP, 16-Leads, Body 10x4mm, Pitch 1.27mm, IPC High Density)
footprint LT-S-16_M (SOP, 16-Leads, Body 10x4mm, Pitch 1.27mm, IPC Low Density)
pins: 1 COSC "External capacitor COSC from this pin to ground sets the operating frequency.", 2 RUN/SS (in) "Combination of Soft-Start and Run Control Inputs. A capacitor to ground at this pin sets the ramp time to full current output. The time is approximately 1.25s/uF. Forcing this pin below 1.5V causes the device to be shut down.(See Datasheet)", 3 ITH "Error Amplifier Compensation Point. The current comparator threshold increases with this control voltage. Nominal voltage range for this pin is 0V to 2.4V.", 4 PGOOD (io) "Open-Drain Logic Output and Forced Continuous/Synchronization Input. The PGOOD pin is pulled to ground when the voltage on the VOSENSE pin is not within +/-7.5% of its nominal set point. If power good indication is not (See Datasheet)", 5 SENSE- (in) "The (-) Input to the Current Comparator.", 6 SENSE+ (in) "The (+) Input to the Current Comparator. Built-in offsets between SENSE + and SENSE- pins in conjunction with RSENSE set the inductor current trip threshold.", 7 VOSENSE (in) "Receives the feedback voltage from an external resistive divider across the output.", 8 SGND (power) "Small-Signal Ground. All small-signal components such as COSC, CSS, the feedback divider plus the loop compensation resistors and capacitor(s) should single-point tie to this pin. This pin should, in turn, connect to PGND.", 9 EXTVCC (power) "Input to the Internal Switch Connected to INTVCC. This switch closes and supplies VCC power whenever EXTVCC is higher than 4.7V. See EXTVCC connection in Applications Information section. Do not exceed 7V on this pin and (See Datasheet)", 10 PGND (power) "Driver Power Ground. This pin connects to the source of the bottom N-channel MOSFET, the anode of the Schottky diode and the (-) terminal of CIN.", 11 BG (out) "High Current Gate Drive for the Bottom N-Channel MOSFET. Voltage swing at this pin is from ground to INTVCC .", 12 INTVCC (power) "Output of the Internal 5.2V Low Dropout Regulator and EXTVCC Switch. The driver and control circuits are powered from this voltage. Decouple to power ground with a 1uF ceramic capacitor placed directly adjacent to the IC (See Datasheet)", 13 VIN (power) "Main Supply Pin. This pin must be closely decoupled to power ground.", 14 SW "Switch Node Connection to Inductor and Bootstrap Capacitor. Voltage swing at this pin is from a Schottky diode (external) voltage drop below ground to VIN.", 15 BOOST "Supply to Topside Floating Driver. The bootstrap capacitor is returned to this pin. Voltage swing at this pin is from a diode drop below INTVCC to VIN + INTVCC.", 16 TG (out) "High Current Gate Drive for Top N-Channel MOSFET. This is the output of a floating driver with a voltage swing equal to INTVCC superimposed on the switch node voltage SW."